# Altium footprint library General.PcbLib: 17 footprints (part 2 of 2)
Each footprint in its own frame and in the unit in brackets; x right, y up, seen from the top. Pads: shape width x height; smd on the part's side, far side on the other; paste and mask are expansions set on the pad; w line width, h text height; cw(c..) or ccw(c..) is an arc to the next point about the centre after c.
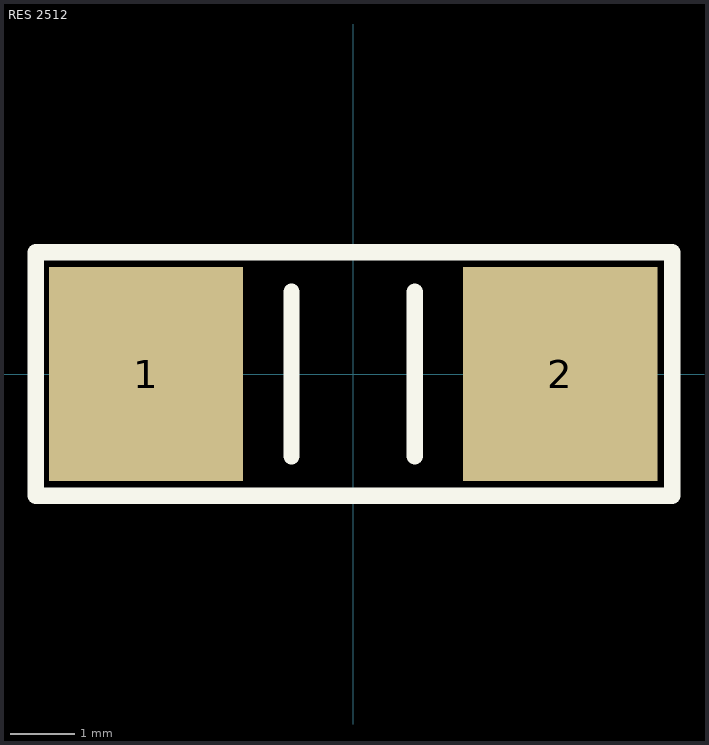
[diagram p1: the footprint, top view; thin cyan lines are the x and y axes]

## RES 2512 [mm]
pads (2):
  rect 3x3.3 smd: 1(-3.2,0) 2(3.2,0)
Top Overlay:
  lines w0.254: -0.953,-1.27 -0.953,1.27 ; 0.953,-1.27 0.953,1.27 ; -4.902,-1.88 4.928,-1.88 4.928,1.88 -4.902,1.88 -4.902,-1.88
3D body "Resistor SMD 2512.STEP": height 0.82, standoff 0.22, extent -3.121,-1.575 3.179,1.575